# EAGLE library part AG9203 (library epic)
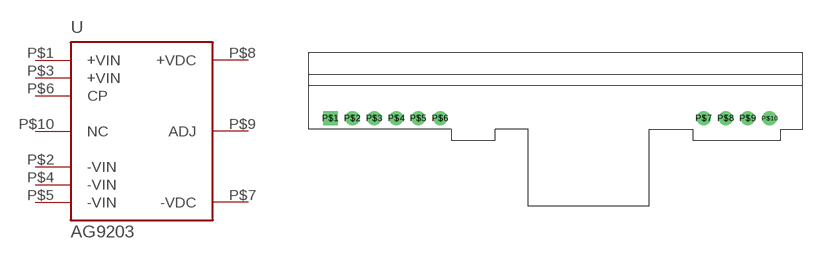
[diagram p11: symbol with the pads of AG9203; footprint AG9203]

Designator prefix U

## AG9203  [AG9203]
P$1  +VIN
P$2  -VIN
P$3  +VIN
P$4  -VIN
P$5  -VIN
P$6  CP
P$7  -VDC
P$8  +VDC
P$9  ADJ
P$10  NC

## Footprint AG9203 (pad centres in mm)
drill 1.1 square: P$1 0,-1.27
drill 1.1: P$2 2.54,-1.27; P$3 5.08,-1.27; P$4 7.62,-1.27; P$5 10.16,-1.27; P$6 12.7,-1.27; P$7 43.18,-1.27; P$8 45.72,-1.27; P$9 48.26,-1.27; P$10 50.8,-1.27